# Altium schematic symbol library STM32F4.SchLib: 2 symbols
Pins are listed as number, name and electrical type; pins without a type are passive.

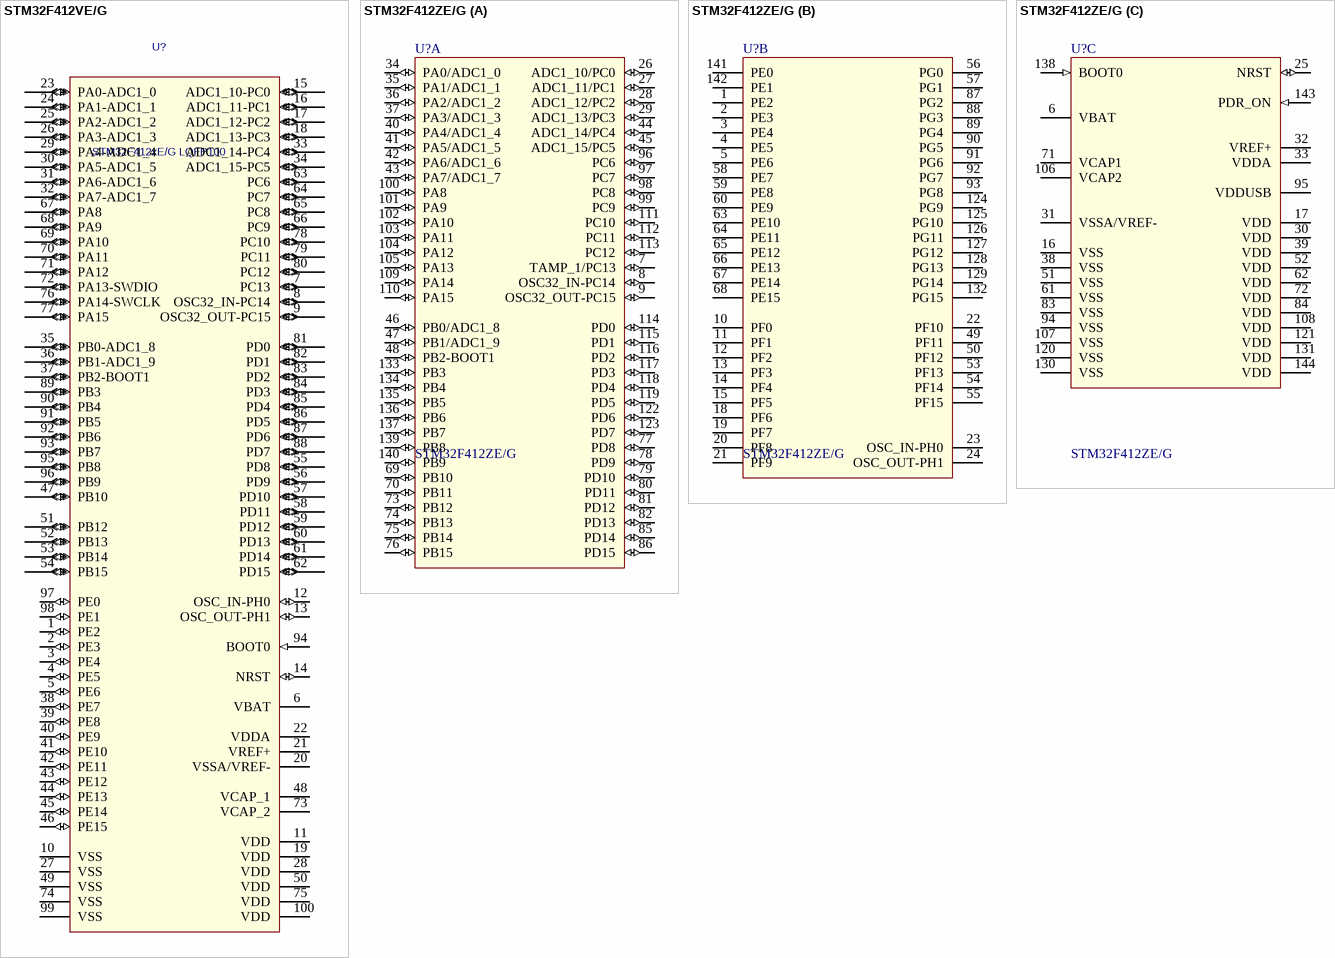
[diagram p0: symbols STM32F412VE/G to STM32F412ZE/G]

## STM32F412VE/G
designator U?, comment STM32F412xE/G LQFP100
STM32 Dynamic Efficiency MCU with BAM, High-performance and DSP with FPU, Arm Cortex-M4 MCU with 512 Kbytes of Flash memory, 100 MHz CPU, Art Accelerator, DFSDM; Value: *
footprint LQFP100_14x14 (LQFP, 100-Leads, Body 14,00x14,00mm, Pitch 0,50mm, IPC Medium Density)
pins: 1 PE2 (io), 2 PE3 (io), 3 PE4 (io), 4 PE5 (io), 5 PE6 (io), 6 VBAT (power), 7 PC13 (io), 8 OSC32_IN-PC14 (io), 9 OSC32_OUT-PC15 (io), 10 VSS (power), 11 VDD (power), 12 OSC_IN-PH0 (io), 13 OSC_OUT-PH1 (io), 14 NRST (io), 15 ADC1_10-PC0 (io), 16 ADC1_11-PC1 (io), 17 ADC1_12-PC2 (io), 18 ADC1_13-PC3 (io), 19 VDD (power), 20 VSSA/VREF- (power), 21 VREF+ (power), 22 VDDA, 23 PA0-ADC1_0 (io), 24 PA1-ADC1_1 (io), 25 PA2-ADC1_2 (io), 26 PA3-ADC1_3 (io), 27 VSS (power), 28 VDD (power), 29 PA4-ADC1_4 (io), 30 PA5-ADC1_5 (io), 31 PA6-ADC1_6 (io), 32 PA7-ADC1_7 (io), 33 ADC1_14-PC4 (io), 34 ADC1_15-PC5 (io), 35 PB0-ADC1_8 (io), 36 PB1-ADC1_9 (io), 37 PB2-BOOT1 (io), 38 PE7 (io), 39 PE8 (io), 40 PE9 (io), 41 PE10 (io), 42 PE11 (io), 43 PE12 (io), 44 PE13 (io), 45 PE14 (io), 46 PE15 (io), 47 PB10 (io), 48 VCAP_1, 49 VSS (power), 50 VDD (power), 51 PB12 (io), 52 PB13 (io), 53 PB14 (io), 54 PB15 (io), 55 PD8 (io), 56 PD9 (io), 57 PD10 (io), 58 PD11 (io), 59 PD12 (io), 60 PD13 (io), 61 PD14 (io), 62 PD15 (io), 63 PC6 (io), 64 PC7 (io), 65 PC8 (io), 66 PC9 (io), 67 PA8 (io), 68 PA9 (io), 69 PA10 (io), 70 PA11 (io), 71 PA12 (io), 72 PA13-SWDIO (io), 73 VCAP_2, 74 VSS (power), 75 VDD (power), 76 PA14-SWCLK (io), 77 PA15 (io), 78 PC10 (io), 79 PC11 (io), 80 PC12 (io), 81 PD0 (io), 82 PD1 (io), 83 PD2 (io), 84 PD3 (io), 85 PD4 (io), 86 PD5 (io), 87 PD6 (io), 88 PD7 (io), 89 PB3 (io), 90 PB4 (io), 91 PB5 (io), 92 PB6 (io), 93 PB7 (io), 94 BOOT0 (in), 95 PB8 (io), 96 PB9 (io), 97 PE0 (io), 98 PE1 (io), 99 VSS (power), 100 VDD (power)

## STM32F412ZE/G
designator U?
footprint LQFP144_20x20 (LQFP 144-pin, 20 x 20 mm low-profile quad flat package)
part A pins: 7 TAMP_1/PC13 (io), 8 OSC32_IN-PC14 (io), 9 OSC32_OUT-PC15 (io), 26 ADC1_10/PC0 (io), 27 ADC1_11/PC1 (io), 28 ADC1_12/PC2 (io), 29 ADC1_13/PC3 (io), 34 PA0/ADC1_0 (io), 35 PA1/ADC1_1 (io), 36 PA2/ADC1_2 (io), 37 PA3/ADC1_3 (io), 40 PA4/ADC1_4 (io), 41 PA5/ADC1_5 (io), 42 PA6/ADC1_6 (io), 43 PA7/ADC1_7 (io), 44 ADC1_14/PC4 (io), 45 ADC1_15/PC5 (io), 46 PB0/ADC1_8 (io), 47 PB1/ADC1_9 (io), 48 PB2-BOOT1 (io), 69 PB10 (io), 70 PB11 (io), 73 PB12 (io), 74 PB13 (io), 75 PB14 (io), 76 PB15 (io), 77 PD8 (io), 78 PD9 (io), 79 PD10 (io), 80 PD11 (io), 81 PD12 (io), 82 PD13 (io), 85 PD14 (io), 86 PD15 (io), 96 PC6 (io), 97 PC7 (io), 98 PC8 (io), 99 PC9 (io), 100 PA8 (io), 101 PA9 (io), 102 PA10 (io), 103 PA11 (io), 104 PA12 (io), 105 PA13 (io), 109 PA14 (io), 110 PA15 (io), 111 PC10 (io), 112 PC11 (io), 113 PC12 (io), 114 PD0 (io), 115 PD1 (io), 116 PD2 (io), 117 PD3 (io), 118 PD4 (io), 119 PD5 (io), 122 PD6 (io), 123 PD7 (io), 133 PB3 (io), 134 PB4 (io), 135 PB5 (io), 136 PB6 (io), 137 PB7 (io), 139 PB8 (io), 140 PB9 (io)
part B pins: 1 PE2, 2 PE3, 3 PE4, 4 PE5, 5 PE6, 10 PF0, 11 PF1, 12 PF2, 13 PF3, 14 PF4, 15 PF5, 18 PF6, 19 PF7, 20 PF8, 21 PF9, 22 PF10, 23 OSC_IN-PH0, 24 OSC_OUT-PH1, 49 PF11, 50 PF12, 53 PF13, 54 PF14, 55 PF15, 56 PG0, 57 PG1, 58 PE7, 59 PE8, 60 PE9, 63 PE10, 64 PE11, 65 PE12, 66 PE13, 67 PE14, 68 PE15, 87 PG2, 88 PG3, 89 PG4, 90 PG5, 91 PG6, 92 PG7, 93 PG8, 124 PG9, 125 PG10, 126 PG11, 127 PG12, 128 PG13, 129 PG14, 132 PG15, 141 PE0, 142 PE1
part C pins: 6 VBAT, 16 VSS (power), 17 VDD (power), 25 NRST (io), 30 VDD (power), 31 VSSA/VREF- (power), 32 VREF+, 33 VDDA, 38 VSS (power), 39 VDD (power), 51 VSS (power), 52 VDD (power), 61 VSS (power), 62 VDD, 71 VCAP1, 72 VDD (power), 83 VSS (power), 84 VDD (power), 94 VSS (power), 95 VDDUSB (power), 106 VCAP2, 107 VSS (power), 108 VDD (power), 120 VSS (power), 121 VDD (power), 130 VSS, 131 VDD, 138 BOOT0 (in), 143 PDR_ON (in), 144 VDD (power)